# Altium footprint library 21-Transistor.PcbLib: 90 footprints (part 3 of 6)
Each footprint in its own frame and in the unit in brackets; x right, y up, seen from the top. Pads: shape width x height; smd on the part's side, far side on the other; paste and mask are expansions set on the pad; w line width, h text height; cw(c..) or ccw(c..) is an arc to the next point about the centre after c.
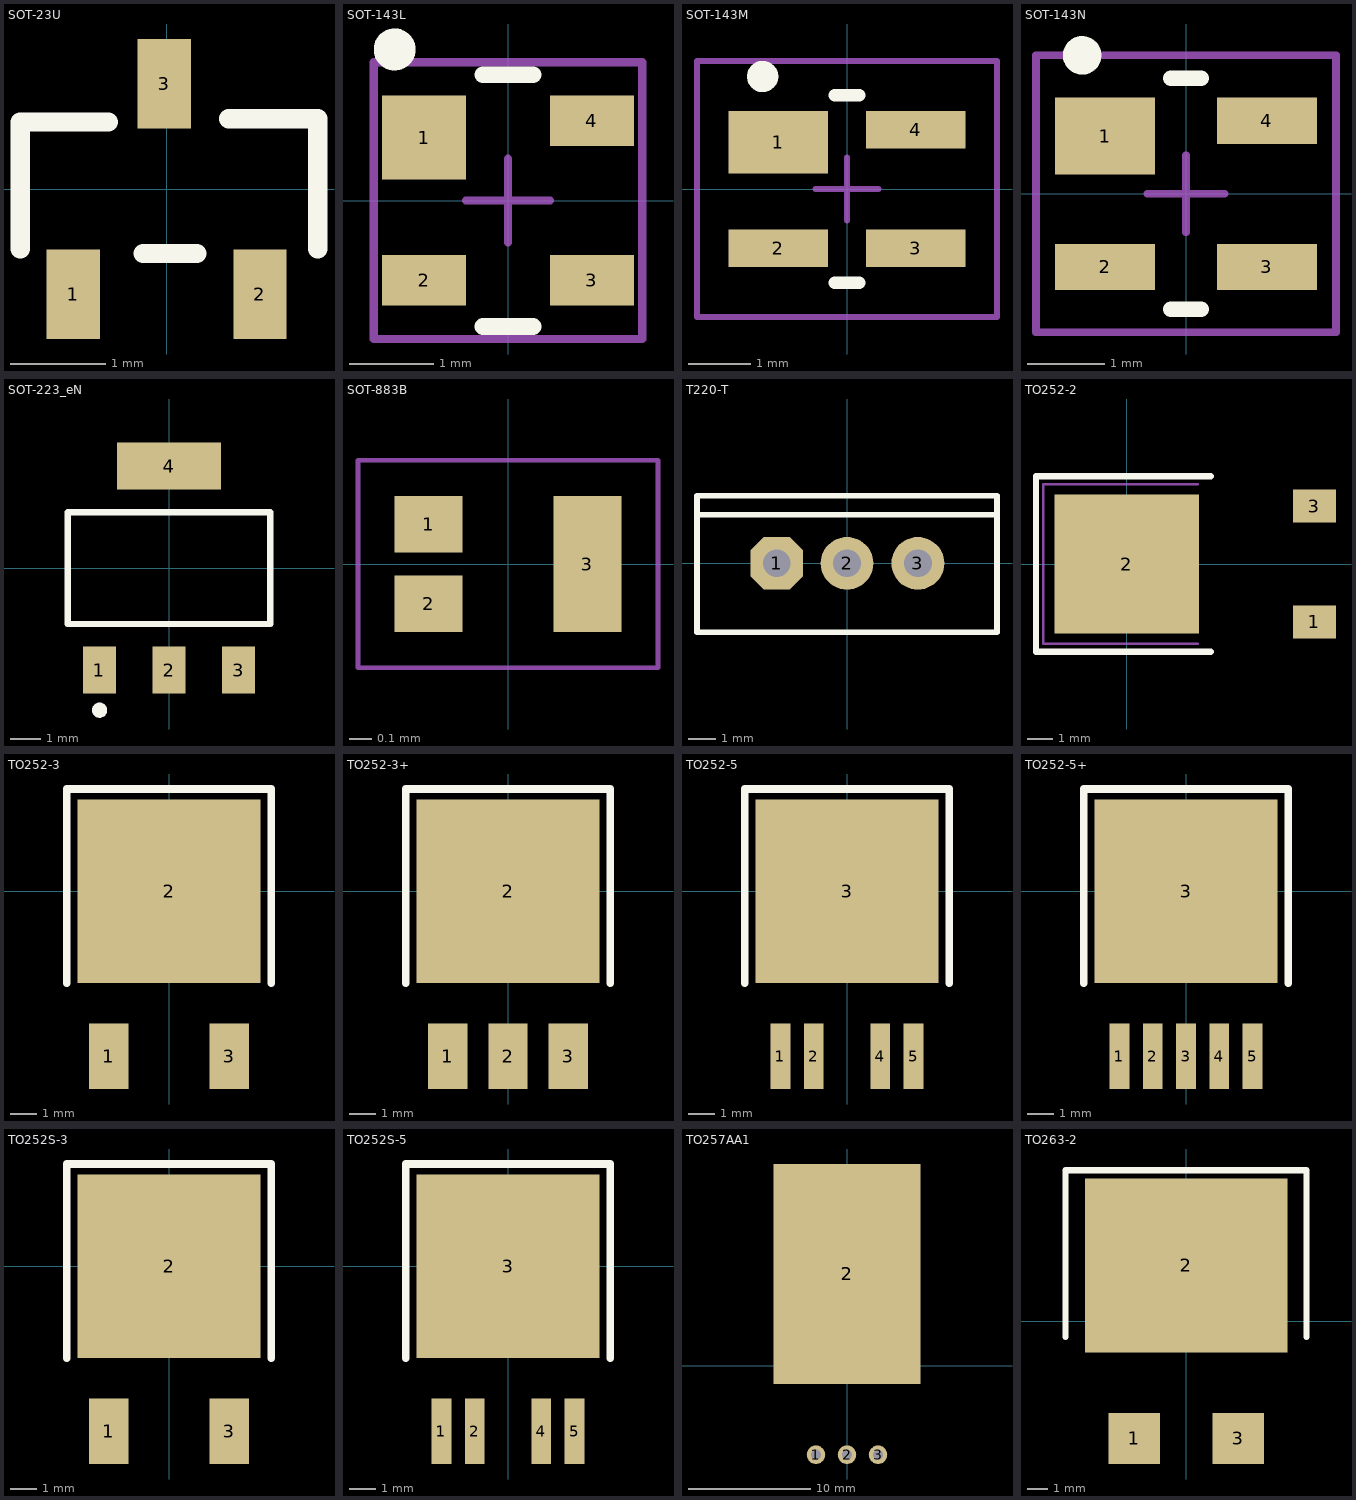
[diagram p2: the footprints below, top view; thin cyan lines are the x and y axes]

## SOT-23U [mil]
height 39.37
pads (3):
  rect 22x37 smd: 1(-38.5,-43.4) 2(38.5,-43.4) 3(-1,43.4)
Top Overlay:
  lines w8: -60.36,-24.78 -60.36,27.65 -24.13,27.65 ; -9.76,-26.6 12.51,-26.6 ; 25.67,29.07 62.3,29.07 62.3,-24.78
3D body "smd3.stp": height 43.31, standoff 0, extent -57.09,-55.12 57.09,55.12

## SOT-143L [mm] "SOT143, 4-Leads, Body 2.9x1.3mm, Pitch 1.9mm, Lead Span 2.5mm, IPC High Density"
height 1.1
pads (4):
  rect 1x1 smd: 1(-1,0.75)
  rect 1x0.6 smd mask+0.07: 2(-1,-0.95) 3(1,-0.95) 4(1,0.95)
Top Overlay:
  circle w0.25: c-1.35,1.8 r0.125
  lines w0.2: -0.3,-1.5 0.3,-1.5 ; -0.3,1.5 0.3,1.5
Mechanical 15:
  lines w0.1: -0.5,0 0.5,0 ; 0,-0.5 0,0.5 ; -1.6,-1.65 1.6,-1.65 1.6,1.65 -1.6,1.65 -1.6,-1.65
3D body "sot-143.stp": height 1.19, standoff 0.01, extent -1.254,-1.524 1.253,1.524

## SOT-143M [mm] "SOT143, 4-Leads, Body 2.9x1.3mm, Pitch 1.9mm, Lead Span 2.5mm, IPC Low Density"
height 1.1
pads (4):
  rect 1.6x1 smd: 1(-1.1,0.75)
  rect 1.6x0.6 smd mask+0.07: 2(-1.1,-0.95) 3(1.1,-0.95) 4(1.1,0.95)
Top Overlay:
  circle w0.25: c-1.35,1.8 r0.125
  lines w0.2: -0.2,-1.5 0.2,-1.5 ; -0.2,1.5 0.2,1.5
Mechanical 15:
  lines w0.1: -0.5,0 0.5,0 ; 0,-0.5 0,0.5 ; -2.4,-2.05 -2.4,2.05 2.4,2.05 2.4,-2.05 -2.4,-2.05
3D body "sot-143.stp": height 1.19, standoff 0.01, extent -1.253,-1.524 1.254,1.524

## SOT-143N [mm] "SOT143, 4-Leads, Body 2.9x1.3mm, Pitch 1.9mm, Lead Span 2.5mm, IPC Medium Density"
height 1.1
pads (4):
  rect 1.3x1 smd: 1(-1.05,0.75)
  rect 1.3x0.6 smd mask+0.07: 2(-1.05,-0.95) 3(1.05,-0.95) 4(1.05,0.95)
Top Overlay:
  circle w0.25: c-1.35,1.8 r0.125
  lines w0.2: -0.2,-1.5 0.2,-1.5 ; -0.2,1.5 0.2,1.5
Mechanical 15:
  lines w0.1: -0.5,0 0.5,0 ; 0,-0.5 0,0.5 ; -1.95,-1.8 1.95,-1.8 1.95,1.8 -1.95,1.8 -1.95,-1.8
3D body "0_6-1_5.stp": height 0.02, standoff 0, extent 0.215,0.64 1.715,1.24
3D body "0_6-1_5.stp": height 0.02, standoff 0, extent -1.715,-1.24 -0.215,-0.64
3D body "0_6-1_5.stp": height 0.02, standoff 0, extent 0.215,-1.24 1.715,-0.64
3D body "1_3-1-1.stp": height 0.01, standoff 0, extent -1.717,0.161 -0.417,1.261
3D body "sot-143.stp": height 1.19, standoff 0.01, extent -1.253,-1.524 1.254,1.524

## SOT-223_eN [mm]
height 1.7
pads (4):
  rect 1.1x1.55 smd mask+0.07: 1(-2.3,-3.375) 2(0,-3.375) 3(2.3,-3.375)
  rect 3.45x1.55 smd: 4(0,3.375)
Top Overlay:
  circle w0.25: c-2.3,-4.7 r0.125
  lines w0.2: -3.35,-1.85 3.35,-1.85 3.35,1.85 -3.35,1.85 -3.35,-1.85
3D body "1_1-1_55.stp": height 0.02, standoff 0, extent 1.75,-4.15 2.85,-2.6
3D body "1_1-1_55.stp": height 0.02, standoff 0, extent -0.55,-4.15 0.55,-2.6
3D body "1_1-1_55.stp": height 0.02, standoff 0, extent -2.85,-4.15 -1.75,-2.6
3D body "3_45-1_55.stp": height 0.02, standoff 0, extent -1.725,2.6 1.725,4.15
3D body "sot-233_to261aa.stp": height 1.8, standoff 0, extent -3.263,-3.5 3.237,3.5

## SOT-883B [mm]
height 1.7
pads (3):
  rect 0.3x0.25 smd mask+0.07: 1(-0.35,0.175) 2(-0.35,-0.175)
  rect 0.3x0.6 smd mask+0.07: 3(0.35,0)
Mechanical 15:
  lines w0.02: -0.66,-0.457 0.66,-0.457 0.66,0.457 -0.66,0.457 -0.66,-0.457

## T220-T [mm]
height 1.7
pads (3):
  oct 1.9x1.9 hole 1 mask+0.07: 1(-2.527,0)
  round 1.9 hole 1: 2(0,0)
  round 1.9 hole 1 mask+0.07: 3(2.553,0)
Top Overlay:
  lines w0.2: -5.4,1.753 5.4,1.753 ; -5.4,-2.489 5.4,-2.489 5.4,2.438 -5.4,2.438 -5.4,-2.489
3D body "2-2-0_8.stp": height 0.02, standoff -2.02, extent 1.558,-0.978 3.558,1.022
3D body "2-2-0_8.stp": height 0.02, standoff -2.02, extent -0.994,-0.978 1.006,1.022
3D body "2-2-0_8.stp": height 0.02, standoff -2.02, extent -3.522,-0.978 -1.522,1.022
3D body "to-220t.stp": height 19.31, standoff -3, extent -5.25,-2.375 5.25,2.275

## TO252-2 [mm]
height 1.7
pads (3):
  rect 1.7x1.3 smd mask+0.07: 1(7.4,-2.285)
  rect 5.7x5.5 smd mask+0.07: 2(0,0)
  rect 1.7x1.3 smd: 3(7.4,2.285)
Top Overlay:
  lines w0.254: 3.302,-3.454 -3.581,-3.454 -3.581,3.454 3.302,3.454
Mechanical 15:
  lines w0.1: 2.794,-3.14 -3.302,-3.14 -3.302,3.14 2.794,3.14
3D body "sto252-3.stp": height 2.3, standoff -0.01, extent -1.837,-3.25 7.663,3.25

## TO252-3 [mm] "&TO252S-3"
height 1.7
pads (3):
  rect 1.5x2.5 smd: 1(-2.3,-6.3) 3(2.3,-6.3)
  rect 7x7 smd: 2(0,0)
Top Overlay:
  lines w0.3: -3.9,-3.5 -3.9,3.9 3.9,3.9 3.9,-3.5
3D body "sto252-3.stp": height 2.3, standoff -0.01, extent -3.25,-6.8 3.25,2.7

## TO252-3+ [mm]
height 1.7
pads (4):
  rect 1.5x2.5 smd: 1(-2.3,-6.3) 2(0,-6.3) 3(2.3,-6.3)
  rect 7x7 smd: 2(0,0)
Top Overlay:
  lines w0.3: -3.9,-3.5 -3.9,3.9 3.9,3.9 3.9,-3.5
3D body "sto252-3_.stp": height 1.2, standoff -0.01, extent -3.25,-7 3.25,2.5

## TO252-5 [mm] "&TO252S-5"
height 1.7
pads (5):
  rect 0.76x2.5 smd: 1(-2.54,-6.3) 2(-1.27,-6.3) 4(1.27,-6.3) 5(2.54,-6.3)
  rect 7x7 smd: 3(0,0)
Top Overlay:
  lines w0.3: -3.9,-3.5 -3.9,3.9 3.9,3.9 3.9,-3.5
3D body "sto252-5.stp": height 2.3, standoff -0.01, extent -3.25,-6.8 3.25,2.7

## TO252-5+ [mm]
height 1.7
pads (6):
  rect 0.76x2.5 smd: 1(-2.54,-6.3) 2(-1.27,-6.3) 3(0,-6.3) 4(1.27,-6.3) 5(2.54,-6.3)
  rect 7x7 smd: 3(0,0)
Top Overlay:
  lines w0.3: -3.9,-3.5 -3.9,3.9 3.9,3.9 3.9,-3.5
3D body "sto252S-5_.stp": height 1.2, standoff 0, extent -3.25,-6.9 3.25,2.608

## TO252S-3 [mm]
height 1.7
pads (3):
  rect 1.5x2.5 smd: 1(-2.3,-6.3) 3(2.3,-6.3)
  rect 7x7 smd: 2(0,0)
Top Overlay:
  lines w0.3: -3.9,-3.5 -3.9,3.9 3.9,3.9 3.9,-3.5
3D body "sto252S-3.stp": height 1.2, standoff -0.01, extent -3.25,-6.8 3.25,2.7

## TO252S-5 [mm]
height 1.7
pads (5):
  rect 0.76x2.5 smd: 1(-2.54,-6.3) 2(-1.27,-6.3) 4(1.27,-6.3) 5(2.54,-6.3)
  rect 7x7 smd: 3(0,0)
Top Overlay:
  lines w0.3: -3.9,-3.5 -3.9,3.9 3.9,3.9 3.9,-3.5
3D body "sto252S-5.stp": height 1.2, standoff 0, extent -3.25,-6.9 3.25,2.608

## TO257AA1 [mil]
height 184.65
pads (4):
  round 60 hole 33.46 mask+2.76: 1(-100,-287.5) 2(0,-287.5)
  rect 472.44x708.66 smd mask+2.76: 2(0,295.28)
  round 60 hole 33.46: 3(100,-287.5)
3D body "to-257aa1.stp": height 200, standoff -98.43, extent -209.84,-297.5 209.84,630.22

## TO263-2 [mm]
height 4.69
pads (3):
  rect 2.5x2.5 smd mask+0.07: 1(-2.54,-5.724)
  rect 9.9x8.5 smd mask+0.07: 2(0,2.726)
  rect 2.5x2.5 smd: 3(2.54,-5.724)
Top Overlay:
  lines w0.3: -5.893,-0.774 -5.893,7.375 5.867,7.375 5.867,-0.774
3D body "lpds.stp": height 4.5, standoff 0, extent -5.025,-6.038 5.075,7.062
3D body "2_5-2_5.stp": height 0.02, standoff 0, extent -3.79,-6.99 -1.29,-4.49
3D body "2_5-2_5.stp": height 0.02, standoff 0, extent 1.29,-7.003 3.79,-4.503